# EAGLE library part 8X8-2COLOR-MATRIX (library debauer_modules)
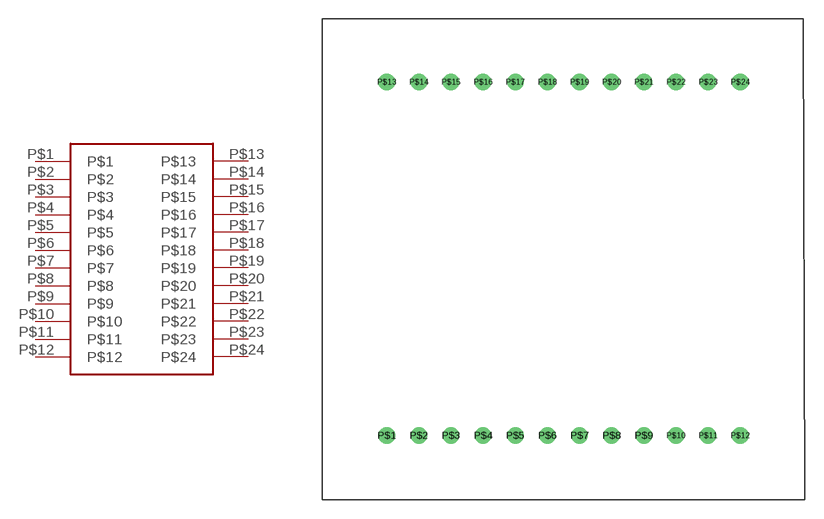
[diagram p27: symbol with the pads of 8X8-2COLOR-MATRIX; footprint 8X8-2COLOR-MATRIX]

Designator prefix -

## 8X8-2COLOR-MATRIX  [8X8-2COLOR-MATRIX]
P$1  P$1
P$2  P$2
P$3  P$3
P$4  P$4
P$5  P$5
P$6  P$6
P$7  P$7
P$8  P$8
P$9  P$9
P$10  P$10
P$11  P$11
P$12  P$12
P$13  P$13
P$14  P$14
P$15  P$15
P$16  P$16
P$17  P$17
P$18  P$18
P$19  P$19
P$20  P$20
P$21  P$21
P$22  P$22
P$23  P$23
P$24  P$24

## Footprint 8X8-2COLOR-MATRIX (pad centres in mm)
drill 0.8: P$1 5.08,5.08; P$2 7.62,5.08; P$3 10.16,5.08; P$4 12.7,5.08; P$5 15.24,5.08; P$6 17.78,5.08; P$7 20.32,5.08; P$8 22.86,5.08; P$9 25.4,5.08; P$10 27.94,5.08; P$11 30.48,5.08; P$12 33.02,5.08; P$13 5.08,33.02; P$14 7.62,33.02; P$15 10.16,33.02; P$16 12.7,33.02; P$17 15.24,33.02; P$18 17.78,33.02; P$19 20.32,33.02; P$20 22.86,33.02; P$21 25.4,33.02; P$22 27.94,33.02; P$23 30.48,33.02; P$24 33.02,33.02